# Altium schematic symbol library ProjectLib.SchLib: 2 symbols
Pins are listed as number, name and electrical type; pins without a type are passive.

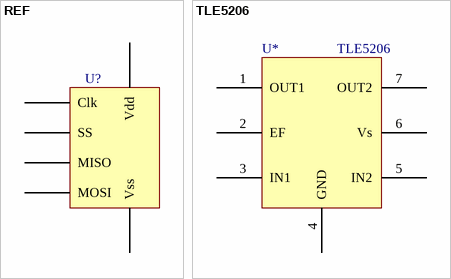
[diagram p0: symbols REF to TLE5206]

## REF
designator U?  (value not drawn)
pins: ?1 Vdd, ?2 Vss, ?3 Clk, ?4 SS, ?5 MISO, ?6 MOSI

## TLE5206
designator U*
pins: 1 OUT1, 2 EF, 3 IN1, 4 GND, 5 IN2, 6 Vs, 7 OUT2